# EAGLE library part CONN_ET60S-D04-3-08-D04-X-R1-S (library X16_Backplane)
Backplane to Power Slab Connector: Power to the Board .100" EXTreme Ten60Power 60 Amp Signal/Power Combo Socket Strip
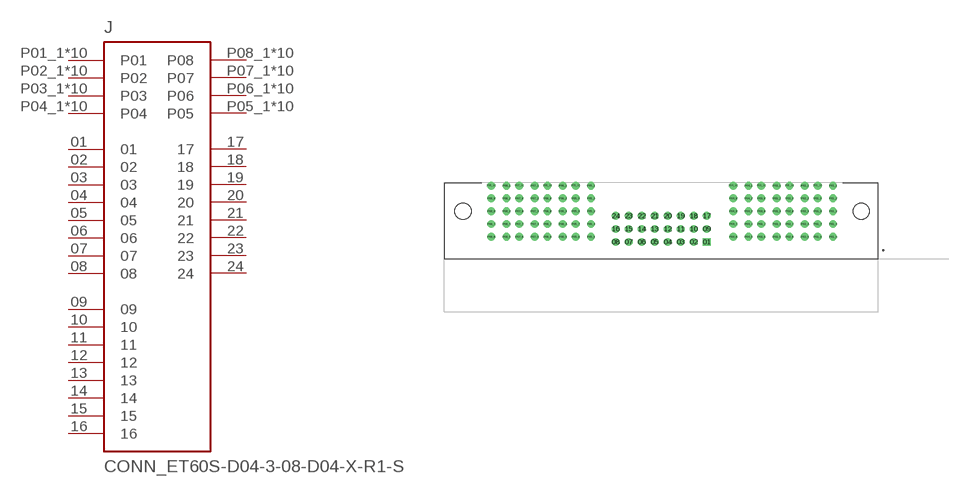
[diagram p3: symbol with the pads of SAMTEC_ET60S-D04-3-08-D04-X-R1-S; footprint SAMTEC_ET60S-D04-3-08-D04-X-R1-S]

Designator prefix J

## CONN_ET60S-D04-3-08-D04-X-R1-S (MANUFACTURER: Samtec; MAXIMUM_PACKAGE_HEIGHT: 10 mm; PARTREV: G; STANDARD: Manufacturer Recommendations)  [SAMTEC_ET60S-D04-3-08-D04-X-R1-S]
01  01  pas
02  02  pas
03  03  pas
04  04  pas
05  05  pas
06  06  pas
07  07  pas
08  08  pas
09  09  pas
10  10  pas
11  11  pas
12  12  pas
13  13  pas
14  14  pas
15  15  pas
16  16  pas
17  17  pas
18  18  pas
19  19  pas
20  20  pas
21  21  pas
22  22  pas
23  23  pas
24  24  pas
P01_1  P01  pwr
P01_2  P01  pwr
P01_3  P01  pwr
P01_4  P01  pwr
P01_5  P01  pwr
P01_6  P01  pwr
P01_7  P01  pwr
P01_8  P01  pwr
P01_9  P01  pwr
P01_10  P01  pwr
P02_1  P02  pwr
P02_2  P02  pwr
P02_3  P02  pwr
P02_4  P02  pwr
P02_5  P02  pwr
P02_6  P02  pwr
P02_7  P02  pwr
P02_8  P02  pwr
P02_9  P02  pwr
P02_10  P02  pwr
P03_1  P03  pwr
P03_2  P03  pwr
P03_3  P03  pwr
P03_4  P03  pwr
P03_5  P03  pwr
P03_6  P03  pwr
P03_7  P03  pwr
P03_8  P03  pwr
P03_9  P03  pwr
P03_10  P03  pwr
P04_1  P04  pwr
P04_2  P04  pwr
P04_3  P04  pwr
P04_4  P04  pwr
P04_5  P04  pwr
P04_6  P04  pwr
P04_7  P04  pwr
P04_8  P04  pwr
P04_9  P04  pwr
P04_10  P04  pwr
P05_1  P05  pwr
P05_2  P05  pwr
P05_3  P05  pwr
P05_4  P05  pwr
P05_5  P05  pwr
P05_6  P05  pwr
P05_7  P05  pwr
P05_8  P05  pwr
P05_9  P05  pwr
P05_10  P05  pwr
P06_1  P06  pwr
P06_2  P06  pwr
P06_3  P06  pwr
P06_4  P06  pwr
P06_5  P06  pwr
P06_6  P06  pwr
P06_7  P06  pwr
P06_8  P06  pwr
P06_9  P06  pwr
P06_10  P06  pwr
P07_1  P07  pwr
P07_2  P07  pwr
P07_3  P07  pwr
P07_4  P07  pwr
P07_5  P07  pwr
P07_6  P07  pwr
P07_7  P07  pwr
P07_8  P07  pwr
P07_9  P07  pwr
P07_10  P07  pwr
P08_1  P08  pwr
P08_2  P08  pwr
P08_3  P08  pwr
P08_4  P08  pwr
P08_5  P08  pwr
P08_6  P08  pwr
P08_7  P08  pwr
P08_8  P08  pwr
P08_9  P08  pwr
P08_10  P08  pwr

## Footprint SAMTEC_ET60S-D04-3-08-D04-X-R1-S (pad centres in mm)
drill 1.02 square: 01 8.71,-6
drill 1.02: 02 6.17,-6; 03 3.63,-6; 04 1.09,-6; 05 -1.45,-6; 06 -3.99,-6; 07 -6.53,-6; 08 -9.07,-6; 09 8.71,-3.46; 10 6.17,-3.46; 11 3.63,-3.46; 12 1.09,-3.46; 13 -1.45,-3.46; 14 -3.99,-3.46; 15 -6.53,-3.46; 16 -9.07,-3.46; 17 8.71,-0.92; 18 6.17,-0.92; 19 3.63,-0.92; 20 1.09,-0.92; 21 -1.45,-0.92; 22 -3.99,-0.92; 23 -6.53,-0.92; 24 -9.07,-0.92; P01_1 33.38,5; P01_2 33.38,2.5; P01_3 33.38,0; P01_4 33.38,-2.5; P01_5 33.38,-5; P01_6 30.38,-5; P01_7 30.38,-2.5; P01_8 30.38,0; P01_9 30.38,2.5; P01_10 30.38,5; P02_1 27.88,5; P02_2 27.88,2.5; P02_3 27.88,0; P02_4 27.88,-2.5; P02_5 27.88,-5; P02_6 24.88,-5; P02_7 24.88,-2.5; P02_8 24.88,0; P02_9 24.88,2.5; P02_10 24.88,5; P03_1 22.38,5; P03_2 22.38,2.5; P03_3 22.38,0; P03_4 22.38,-2.5; P03_5 22.38,-5; P03_6 19.38,-5; P03_7 19.38,-2.5; P03_8 19.38,0; P03_9 19.38,2.5; P03_10 19.38,5; P04_1 16.88,5; P04_2 16.88,2.5; P04_3 16.88,0; P04_4 16.88,-2.5; P04_5 16.88,-5; P04_6 13.88,-5; P04_7 13.88,-2.5; P04_8 13.88,0; P04_9 13.88,2.5; P04_10 13.88,5; P05_1 -13.88,5; P05_2 -13.88,2.5; P05_3 -13.88,0; P05_4 -13.88,-2.5; P05_5 -13.88,-5; P05_6 -16.88,-5; P05_7 -16.88,-2.5; P05_8 -16.88,0; P05_9 -16.88,2.5; P05_10 -16.88,5; P06_1 -19.38,5; P06_2 -19.38,2.5; P06_3 -19.38,0; P06_4 -19.38,-2.5; P06_5 -19.38,-5; P06_6 -22.38,-5; P06_7 -22.38,-2.5; P06_8 -22.38,0; P06_9 -22.38,2.5; P06_10 -22.38,5; P07_1 -24.88,5; P07_2 -24.88,2.5; P07_3 -24.88,0; P07_4 -24.88,-2.5; P07_5 -24.88,-5; P07_6 -27.88,-5; P07_7 -27.88,-2.5; P07_8 -27.88,0; P07_9 -27.88,2.5; P07_10 -27.88,5; P08_1 -30.38,5; P08_2 -30.38,2.5; P08_3 -30.38,0; P08_4 -30.38,-2.5; P08_5 -30.38,-5; P08_6 -33.38,-5; P08_7 -33.38,-2.5; P08_8 -33.38,0; P08_9 -33.38,2.5; P08_10 -33.38,5
hole 3.2 at -38.88,0
hole 3.2 at 38.88,0